# Altium footprint library 2525.PcbLib: 1 footprints
Each footprint in its own frame and in the unit in brackets; x right, y up, seen from the top. Pads: shape width x height; smd on the part's side, far side on the other; paste and mask are expansions set on the pad; w line width, h text height; cw(c..) or ccw(c..) is an arc to the next point about the centre after c.
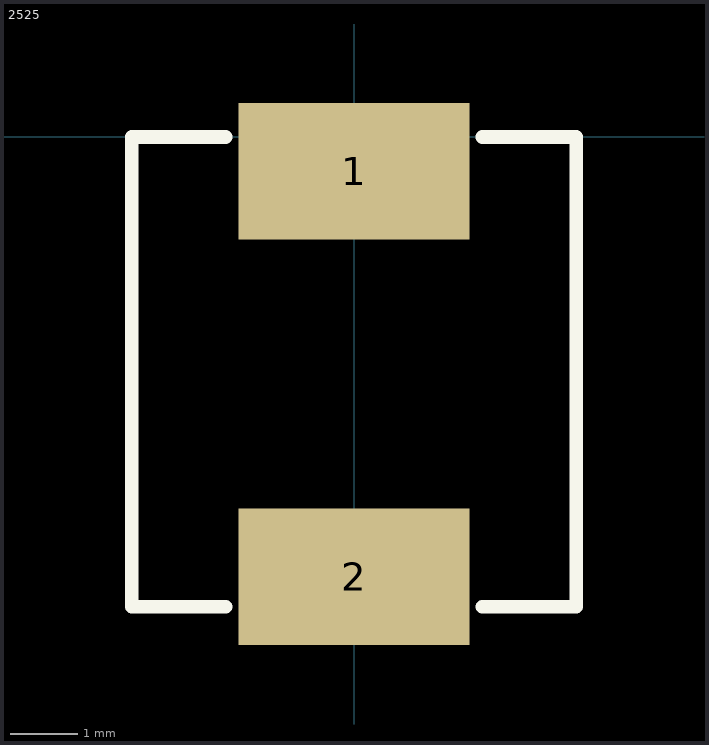
[diagram p0: the footprint, top view; thin cyan lines are the x and y axes]

## 2525 [mil]
height 236
pads (2):
  rect 135x80 smd: 1(0,-20) 2(0,-257.44)
TopOverlay:
  lines w8: -75,-275 -130,-275 -130,0 -75,0 ; 75,-275 130,-275 130,0 75,0
3D body: height 100, standoff 50, extent -82.5,-9.8 82.5,0.2
3D body: height 100, standoff 50, extent -82,-275 83,-265
3D body: height 50, standoff 0, extent -62.5,-275 62.5,-265
3D body: height 50, standoff 0, extent -62.5,-10 62.5,0
3D body: height 100, standoff 0, extent -125.39,-265.39 125.39,-9.61
3D body: height 200, standoff 100, extent -120.29,-260.29 120.29,-14.71